# Altium footprint library Passives.PcbLib: 35 footprints (part 1 of 3)
Each footprint in its own frame and in the unit in brackets; x right, y up, seen from the top. Pads: shape width x height; smd on the part's side, far side on the other; paste and mask are expansions set on the pad; w line width, h text height; cw(c..) or ccw(c..) is an arc to the next point about the centre after c.
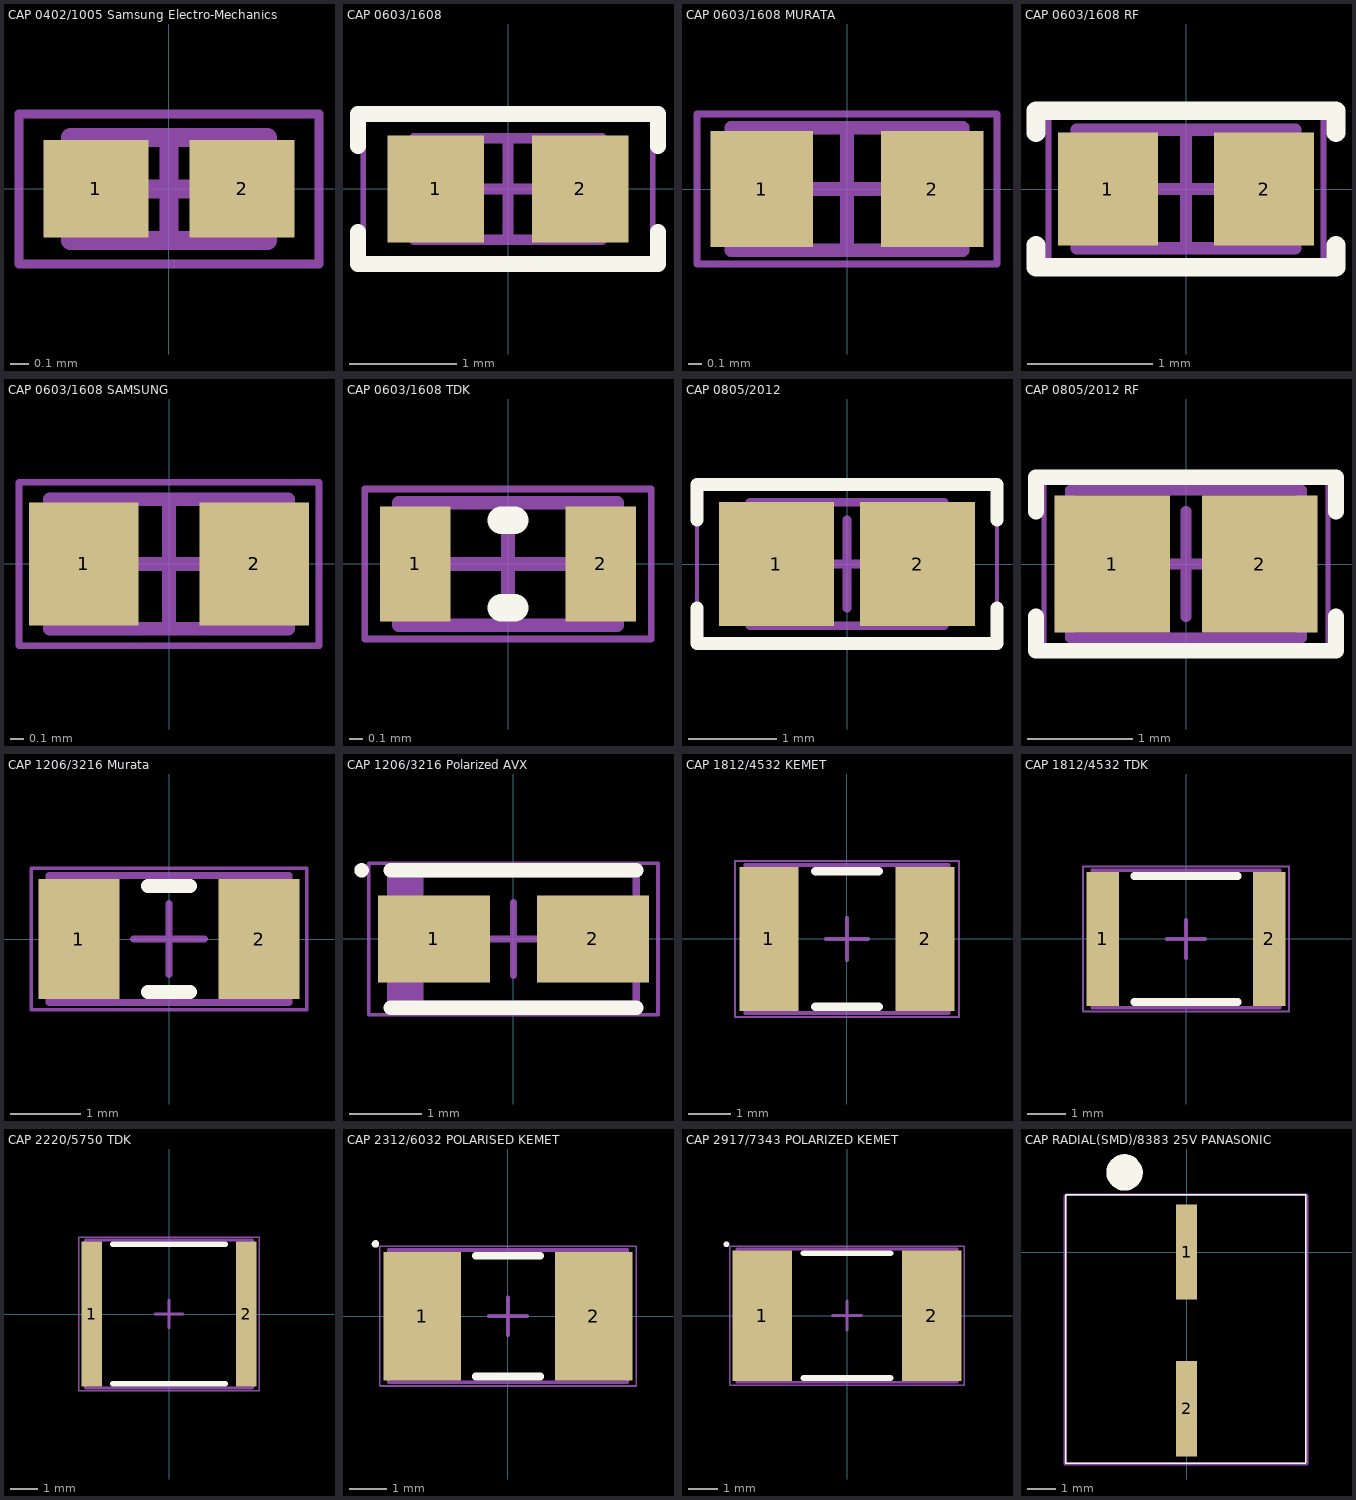
[diagram p0: the footprints below, top view; thin cyan lines are the x and y axes]

## CAP 0402/1005 Samsung Electro-Mechanics [mm] "Chip Capacitor, 2-Leads, Body 1.00x0.50mm, IPC High Density"
height 0.55
pads (2):
  rect 0.56x0.52 smd: 1(-0.39,0) 2(0.39,0)
Mechanical 13:
  lines w0.1: -0.525,-0.275 0.525,-0.275 0.525,0.275 -0.525,0.275 -0.525,-0.275
Mechanical 15:
  lines w0.05: -0.8,-0.4 0.8,-0.4 0.8,0.4 -0.8,0.4 -0.8,-0.4
  lines w0.1: -0.275,0 0.275,0 ; 0,-0.275 0,0.275
  text "'.Designator'" at -0.275,0 h0.51
3D body: height 0.55, standoff 0, extent 0.275,-0.275 0.525,0.275
3D body: height 0.55, standoff 0, extent -0.525,-0.275 -0.275,0.275
3D body: height 0.55, standoff 0, extent -0.275,-0.275 0.275,0.275

## CAP 0603/1608 [mm] "Chip Capacitor, 2-Leads, Body 1.60x0.80mm, IPC Medium Density"
height 0.89
pads (2):
  rect 0.9x1 smd: 1(-0.675,0) 2(0.675,0)
Top Overlay:
  lines w0.15: -1.4,-0.4 -1.4,-0.7 1.4,-0.7 1.4,-0.4 ; -1.4,0.4 -1.4,0.7 1.4,0.7 1.4,0.4
Mechanical 13:
  lines w0.1: -0.875,-0.475 -0.875,0.475 0.875,0.475 0.875,-0.475 -0.875,-0.475
Mechanical 15:
  lines w0.05: -1.35,-0.75 -1.35,0.75 1.35,0.75 1.35,-0.75 -1.35,-0.75
  lines w0.1: -0.475,0 0.475,0 ; 0,-0.475 0,0.475
  text "'.Designator'" at -1.35,-0.254 h1
3D body "0603 cap.STEP": height 0.82, standoff 0, extent -0.8,-0.412 0.8,0.412

## CAP 0603/1608 MURATA [mm] "Chip Capacitor, 2-Leads, Body 1.60x0.80mm, IPC High Density"
height 0.9
pads (2):
  rect 0.75x0.85 smd: 1(-0.625,0) 2(0.625,0)
Mechanical 13:
  lines w0.1: -0.85,-0.45 0.85,-0.45 0.85,0.45 -0.85,0.45 -0.85,-0.45
Mechanical 15:
  lines w0.05: -1.1,-0.55 1.1,-0.55 1.1,0.55 -1.1,0.55 -1.1,-0.55
  lines w0.1: -0.45,0 0.45,0 ; 0,-0.45 0,0.45
  text "'.Designator'" at -1.1,-0.254 h1
3D body: height 0.9, standoff 0, extent 0.5,-0.45 0.85,0.45
3D body: height 0.9, standoff 0, extent -0.85,-0.45 -0.5,0.45
3D body: height 0.9, standoff 0, extent -0.5,-0.45 0.5,0.45

## CAP 0603/1608 RF [mm] "Chip Capacitor, 2-Leads, Body 1.60x0.80mm, IPC High Density"
height 0.89
pads (2):
  rect 0.8x0.9 smd: 1(-0.625,0) 2(0.625,0)
Top Overlay:
  lines w0.15: -1.2,-0.45 -1.2,-0.625 1.2,-0.625 1.2,-0.45 ; -1.2,0.45 -1.2,0.625 1.2,0.625 1.2,0.45
Mechanical 13:
  lines w0.1: -0.875,-0.475 0.875,-0.475 0.875,0.475 -0.875,0.475 -0.875,-0.475
Mechanical 15:
  lines w0.05: -1.1,-0.6 1.1,-0.6 1.1,0.6 -1.1,0.6 -1.1,-0.6
  lines w0.1: -0.475,0 0.475,0 ; 0,-0.475 0,0.475
  text "'.Designator'" at -1.1,-0.254 h1
3D body "0603 cap.STEP": height 0.82, standoff 0, extent -0.8,-0.412 0.8,0.412

## CAP 0603/1608 SAMSUNG [mm] "Chip Capacitor, 2-Leads, Body 1.60x0.80mm, IPC High Density"
height 0.95
pads (2):
  rect 0.8x0.9 smd: 1(-0.625,0) 2(0.625,0)
Mechanical 13:
  lines w0.1: -0.875,-0.475 0.875,-0.475 0.875,0.475 -0.875,0.475 -0.875,-0.475
Mechanical 15:
  lines w0.05: -1.1,-0.6 1.1,-0.6 1.1,0.6 -1.1,0.6 -1.1,-0.6
  lines w0.1: -0.475,0 0.475,0 ; 0,-0.475 0,0.475
  text "'.Designator'" at -1.1,-0.254 h1
3D body: height 0.95, standoff 0, extent 0.575,-0.475 0.875,0.475
3D body: height 0.95, standoff 0, extent -0.875,-0.475 -0.575,0.475
3D body: height 0.95, standoff 0, extent -0.575,-0.475 0.575,0.475

## CAP 0603/1608 TDK [mm] "Chip Capacitor, 2-Leads, Body 1.55x0.80mm, IPC High Density"
height 0.9
pads (2):
  rect 0.52x0.84 smd: 1(-0.68,0) 2(0.68,0)
Top Overlay:
  lines w0.2: -0.05,-0.32 0.05,-0.32 ; -0.05,0.32 0.05,0.32
Mechanical 13:
  lines w0.1: -0.8,-0.45 -0.8,0.45 0.8,0.45 0.8,-0.45 -0.8,-0.45
Mechanical 15:
  lines w0.05: -1.05,-0.55 -1.05,0.55 1.05,0.55 1.05,-0.55 -1.05,-0.55
  lines w0.1: -0.45,0 0.45,0 ; 0,-0.45 0,0.45
3D body: height 0.9, standoff 0, extent -0.55,-0.45 0.55,0.45
3D body: height 0.9, standoff 0, extent -0.8,-0.45 -0.55,0.45
3D body: height 0.9, standoff 0, extent 0.55,-0.45 0.8,0.45

## CAP 0805/2012 [mm] "Chip Capacitor, 2-Leads, Body 2.00x1.20mm, IPC Medium Density"
height 1.15
pads (2):
  rect 1.3x1.4 smd: 1(-0.8,0) 2(0.8,0)
Top Overlay:
  lines w0.15: -1.7,-0.5 -1.7,-0.9 1.7,-0.9 1.7,-0.5 ; -1.7,0.5 -1.7,0.9 1.7,0.9 1.7,0.5
Mechanical 13:
  lines w0.1: -1.1,-0.7 -1.1,0.7 1.1,0.7 1.1,-0.7 -1.1,-0.7
Mechanical 15:
  lines w0.05: -1.7,-0.95 -1.7,0.95 1.7,0.95 1.7,-0.95 -1.7,-0.95
  lines w0.1: -0.5,0 0.5,0 ; 0,-0.5 0,0.5
  text "'.Designator'" at -1.7,-0.254 h1
3D body "0805 cap.STEP": height 1.26, standoff -0.02, extent -1,-0.637 1,0.637

## CAP 0805/2012 RF [mm] "Chip Capacitor, 2-Leads, Body 2.00x1.20mm, IPC High Density"
height 1.15
pads (2):
  rect 1.1x1.3 smd: 1(-0.7,0) 2(0.7,0)
Top Overlay:
  lines w0.15: -1.425,-0.5 -1.425,-0.825 1.425,-0.825 1.425,-0.5 ; -1.425,0.5 -1.425,0.825 1.425,0.825 1.425,0.5 ; -0.025,0.825 0,0.825
Mechanical 13:
  lines w0.1: -1.1,-0.7 -1.1,0.7 1.1,0.7 1.1,-0.7 -1.1,-0.7
Mechanical 15:
  lines w0.05: -1.35,-0.8 -1.35,0.8 1.35,0.8 1.35,-0.8 -1.35,-0.8
  lines w0.1: -0.5,0 0.5,0 ; 0,-0.5 0,0.5
  text "'.Designator'" at -1.35,-0.254 h1
3D body "0805 cap.STEP": height 1.26, standoff -0.02, extent -1,-0.637 1,0.637

## CAP 1206/3216 Murata [mm] "Chip Capacitor, 2-Leads, Body 3.20x1.60mm, IPC High Density"
height 1.8
pads (2):
  rect 1.15x1.7 smd: 1(-1.275,0) 2(1.275,0)
Top Overlay:
  lines w0.2: -0.3,-0.75 0.3,-0.75 ; -0.3,0.75 0.3,0.75
Mechanical 13:
  lines w0.1: -1.7,-0.9 -1.7,0.9 1.7,0.9 1.7,-0.9 -1.7,-0.9
Mechanical 15:
  lines w0.05: -1.95,-1 -1.95,1 1.95,1 1.95,-1 -1.95,-1
  lines w0.1: -0.5,0 0.5,0 ; 0,-0.5 0,0.5
  text "'.Designator'" at -1.95,-0.254 h1
3D body: height 1.8, standoff 0, extent -1.15,-0.9 1.15,0.9
3D body: height 1.8, standoff 0, extent -1.7,-0.9 -1.15,0.9
3D body: height 1.8, standoff 0, extent 1.15,-0.9 1.7,0.9

## CAP 1206/3216 Polarized AVX [mm] "Molded Capacitor, 2-Leads, Body 3.20x1.65mm, IPC High Density"
height 1.8
pads (2):
  rect 1.55x1.2 smd: 1(-1.1,0) 2(1.1,0)
Top Overlay:
  circle w0.1: c-2.1,0.95 r0.05
  lines w0.2: -1.7,-0.95 1.7,-0.95 ; -1.7,0.95 1.7,0.95
Mechanical 13:
  rectangle: -1.7,-0.9 -1.243,0.9
  lines w0.1: -1.7,-0.9 -1.7,0.9 1.7,0.9 1.7,-0.9 -1.7,-0.9
Mechanical 15:
  lines w0.05: -2,-1.05 -2,1.05 2,1.05 2,-1.05 -2,-1.05
  lines w0.1: -0.5,0 0.5,0 ; 0,-0.5 0,0.5
  text "'.Designator'" at -2,-0.254 h1
3D body: height 1.8, standoff 0, extent -1.7,-0.9 1.7,0.9

## CAP 1812/4532 KEMET [mm] "Chip Capacitor, 2-Leads, Body 4.50x3.20mm, IPC High Density"
height 1.55
pads (2):
  rect 1.4x3.4 smd: 1(-1.85,0) 2(1.85,0)
Top Overlay:
  lines w0.2: -0.75,-1.6 0.75,-1.6 ; -0.75,1.6 0.75,1.6
Mechanical 13:
  lines w0.1: -2.4,-1.75 2.4,-1.75 2.4,1.75 -2.4,1.75 -2.4,-1.75
Mechanical 15:
  lines w0.05: -2.65,-1.85 2.65,-1.85 2.65,1.85 -2.65,1.85 -2.65,-1.85
  lines w0.1: -0.5,0 0.5,0 ; 0,-0.5 0,0.5
  text "'.Designator'" at -2.65,-0.254 h1
3D body: height 1.55, standoff 0, extent 1.8,-1.75 2.4,1.75
3D body: height 1.55, standoff 0, extent -2.4,-1.75 -1.8,1.75
3D body: height 1.55, standoff 0, extent -1.8,-1.75 1.8,1.75

## CAP 1812/4532 TDK [mm] "Chip Capacitor, 2-Leads, Body 4.50x3.20mm, IPC High Density"
height 2.5
pads (2):
  rect 0.85x3.5 smd: 1(-2.175,0) 2(2.175,0)
Top Overlay:
  lines w0.2: -1.35,-1.65 1.35,-1.65 ; -1.35,1.65 1.35,1.65
Mechanical 13:
  lines w0.1: -2.45,-1.8 2.45,-1.8 2.45,1.8 -2.45,1.8 -2.45,-1.8
Mechanical 15:
  lines w0.05: -2.7,-1.9 2.7,-1.9 2.7,1.9 -2.7,1.9 -2.7,-1.9
  lines w0.1: -0.5,0 0.5,0 ; 0,-0.5 0,0.5
  text "'.Designator'" at -2.7,-0.254 h1
3D body: height 2.5, standoff 0, extent 2.2,-1.8 2.45,1.8
3D body: height 2.5, standoff 0, extent -2.45,-1.8 -2.2,1.8
3D body: height 2.5, standoff 0, extent -2.2,-1.8 2.2,1.8

## CAP 2220/5750 TDK [mm] "Chip Capacitor, 2-Leads, Body 5.70x5.00mm, IPC High Density"
height 2.5
pads (2):
  rect 0.75x5.3 smd: 1(-2.825,0) 2(2.825,0)
Top Overlay:
  lines w0.2: -2.05,-2.55 2.05,-2.55 ; -2.05,2.55 2.05,2.55
Mechanical 13:
  lines w0.1: -3.05,-2.7 -3.05,2.7 3.05,2.7 3.05,-2.7 -3.05,-2.7
Mechanical 15:
  lines w0.05: -3.3,-2.8 -3.3,2.8 3.3,2.8 3.3,-2.8 -3.3,-2.8
  lines w0.1: -0.5,0 0.5,0 ; 0,-0.5 0,0.5
  text "'.Designator'" at -2.794,0 h0.51
3D body: height 2.5, standoff 0, extent -2.85,-2.7 2.85,2.7
3D body: height 2.5, standoff 0, extent -3.05,-2.7 -2.85,2.7
3D body: height 2.5, standoff 0, extent 2.85,-2.7 3.05,2.7

## CAP 2312/6032 POLARISED KEMET [mm] "Chip Capacitor, 2-Leads, Body 6.00x3.20mm, IPC High Density"
height 2.8
pads (2):
  rect 2.05x3.4 smd: 1(-2.275,0) 2(2.275,0)
Top Overlay:
  circle w0.1: c-3.512,1.912 r0.05
  lines w0.2: -0.85,-1.6 0.85,-1.6 ; -0.85,1.6 0.85,1.6
Mechanical 13:
  lines w0.1: -3.15,-1.75 3.15,-1.75 3.15,1.75 -3.15,1.75 -3.15,-1.75
Mechanical 15:
  lines w0.05: -3.4,-1.85 3.4,-1.85 3.4,1.85 -3.4,1.85 -3.4,-1.85
  lines w0.1: -0.5,0 0.5,0 ; 0,-0.5 0,0.5
3D body: height 2.8, standoff 0, extent 1.85,-1.75 3.15,1.75
3D body: height 2.8, standoff 0, extent -3.15,-1.75 -1.85,1.75
3D body: height 2.8, standoff 0, extent -1.85,-1.75 1.85,1.75

## CAP 2917/7343 POLARIZED KEMET [mm] "Chip Capacitor, 2-Leads, Body 7.30x4.30mm, IPC High Density"
height 4
pads (2):
  rect 2.05x4.5 smd: 1(-2.925,0) 2(2.925,0)
Top Overlay:
  circle w0.1: c-4.162,2.462 r0.05
  lines w0.2: -1.5,-2.15 1.5,-2.15 ; -1.5,2.15 1.5,2.15
Mechanical 13:
  lines w0.1: -3.8,-2.3 3.8,-2.3 3.8,2.3 -3.8,2.3 -3.8,-2.3
Mechanical 15:
  lines w0.05: -4.05,-2.4 4.05,-2.4 4.05,2.4 -4.05,2.4 -4.05,-2.4
  lines w0.1: -0.5,0 0.5,0 ; 0,-0.5 0,0.5
  text "'.Designator'" at -3.302,0 h0.51
3D body: height 4, standoff 0, extent 2.5,-2.3 3.8,2.3
3D body: height 4, standoff 0, extent -3.8,-2.3 -2.5,2.3
3D body: height 4, standoff 0, extent -2.5,-2.3 2.5,2.3

## CAP RADIAL(SMD)/8383 25V PANASONIC [mm]
pads (2):
  rect 0.75x3.4 smd: 1(0,0) 2(0,-5.6)
Top Overlay:
  lines w0.05: 4.25,-7.55 -4.323,-7.55 -4.323,2.05 4.252,2.05 ; 4.25,-7.523 4.25,0.11 4.25,2.048
  lines w0.7: -2.062,3.102 ccw(c-2.22,2.847) -1.94,2.955
Mechanical 15:
  lines w0.1: -4.35,-7.575 4.3,-7.575 4.3,2.025 4.275,2.05 -4.3,2.05 -4.35,2 -4.35,-7.575
  text "'.Designator'" at -3,-2.975 h0.51